# Altium footprint library 第二版PCB.PcbLib: 20 footprints (part 1 of 2)
Each footprint in its own frame and in the unit in brackets; x right, y up, seen from the top. Pads: shape width x height; smd on the part's side, far side on the other; paste and mask are expansions set on the pad; w line width, h text height; cw(c..) or ccw(c..) is an arc to the next point about the centre after c.
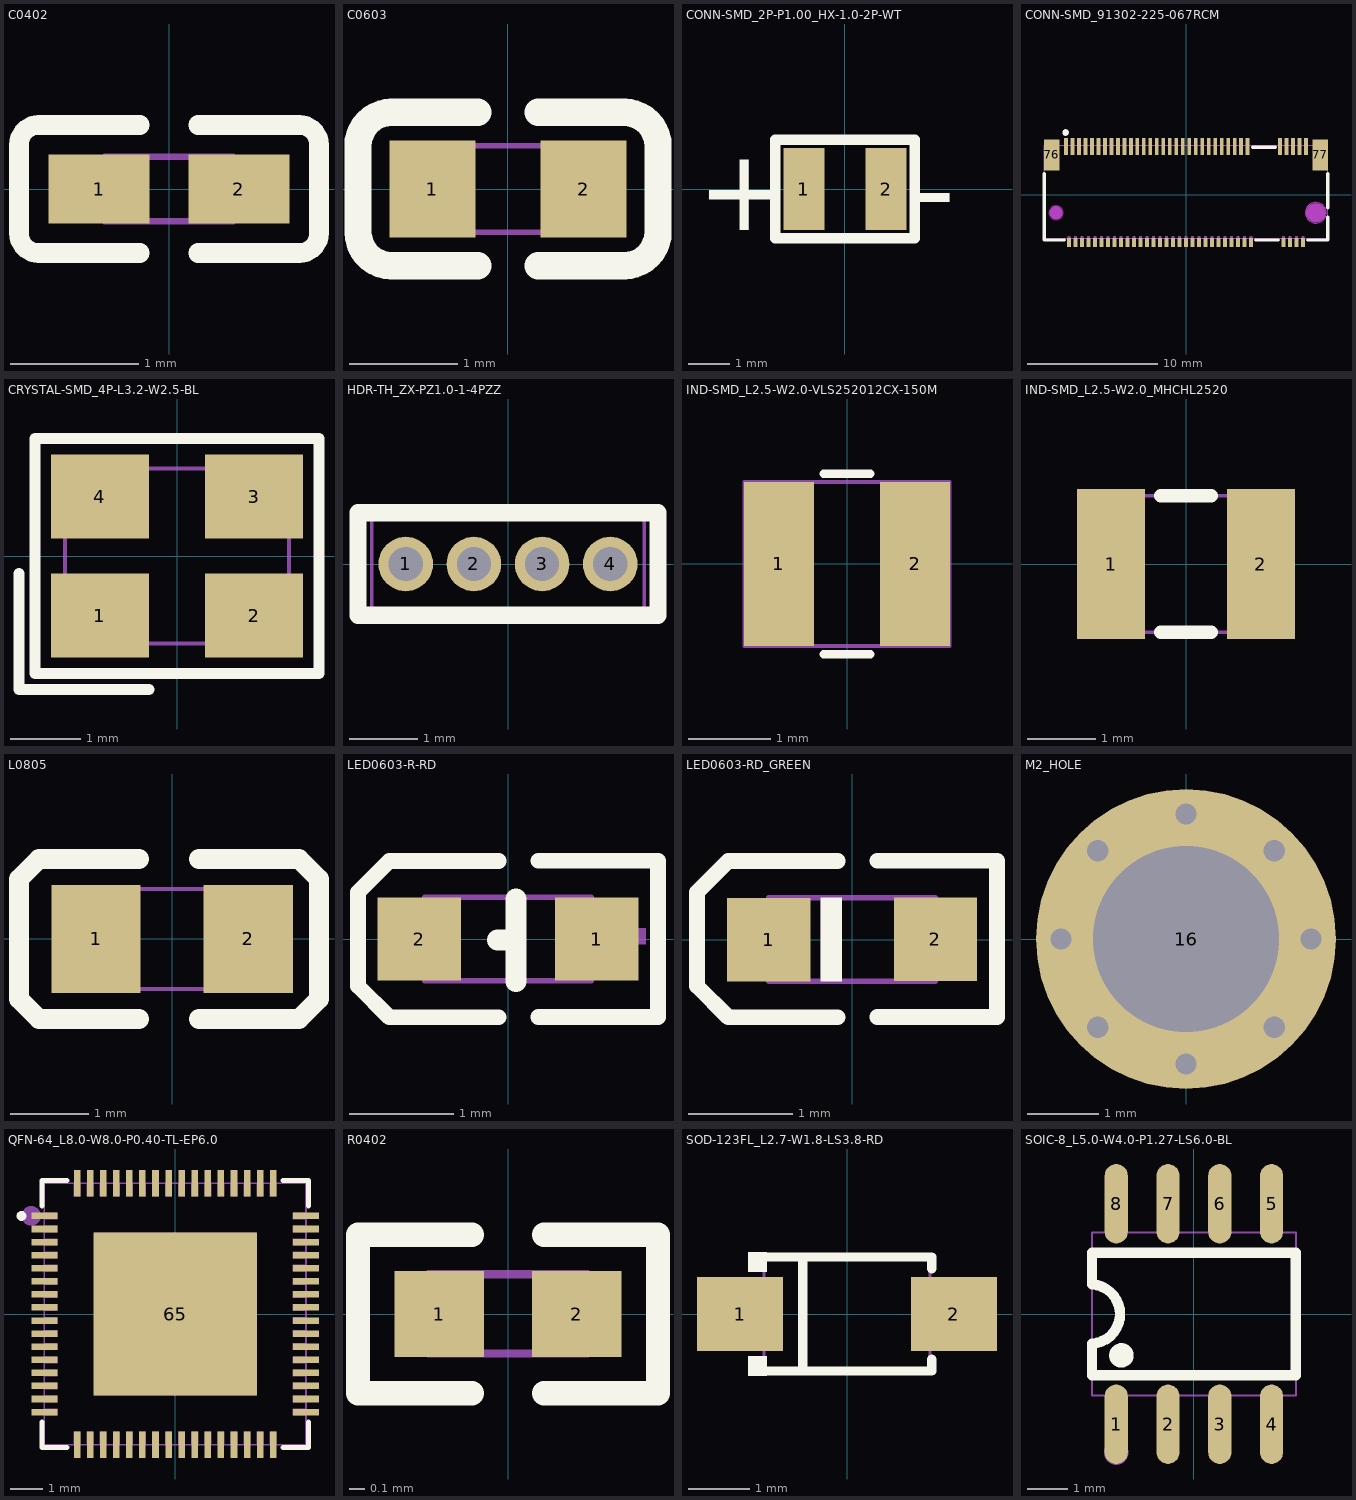
[diagram p0: the footprints below, top view; thin cyan lines are the x and y axes]

## C0402 [mm]
pads (2):
  rect 0.79x0.54 smd paste-100 mask+0.051: 1(-0.545,0) 2(0.545,0)
Top Overlay:
  lines w0.152: -0.226,-0.499 -1.016,-0.499 cw(c-1.016,-0.346) -1.169,-0.346 -1.169,0.346 cw(c-1.016,0.346) -1.016,0.499 -0.226,0.499 ; 0.226,-0.499 1.016,-0.499 ccw(c1.016,-0.346) 1.169,-0.346 1.169,0.346 ccw(c1.016,0.346) 1.016,0.499 0.226,0.499
Top Paste:
  region: 0.78,0.225 0.78,-0.225 0.73,-0.275 0.25,-0.275 0.18,-0.225 0.18,0.225 0.25,0.275 0.73,0.275
  region: -0.18,0.225 -0.18,-0.225 -0.25,-0.275 -0.73,-0.275 -0.78,-0.225 -0.78,0.225 -0.73,0.275 -0.25,0.275
Mechanical 15:
  region: 0.5,-0.25 0.5,0.25 0.25,0.25 0.25,-0.25
  region: -0.5,-0.25 -0.5,0.25 -0.25,0.25 -0.25,-0.25
  lines w0.051: -0.5,-0.25 0.5,-0.25 0.5,0.25 -0.5,0.25 -0.5,-0.25

## C0603 [mm]
pads (2):
  rect 0.8x0.9 smd: 1(-0.7,0) 2(0.7,0)
Top Overlay:
  lines w0.254: -1.08,-0.71 -0.28,-0.71 ; -1.08,0.71 -0.28,0.71 ; -1.08,-0.71 cw(c-1.08,-0.4) -1.39,-0.4 -1.39,0.4 cw(c-1.08,0.4) -1.08,0.71 ; 0.28,-0.71 1.08,-0.71 ccw(c1.08,-0.4) 1.39,-0.4 1.39,0.4 ccw(c1.08,0.4) 1.08,0.71 0.28,0.71
Mechanical 15:
  region: 0.8,-0.4 0.8,0.4 0.5,0.4 0.5,-0.4
  region: -0.8,-0.4 -0.8,0.4 -0.5,0.4 -0.5,-0.4
  lines w0.051: -0.8,-0.4 0.8,-0.4 0.8,0.4 -0.8,0.4 -0.8,-0.4

## CONN-SMD_2P-P1.00_HX-1.0-2P-WT [mm]
pads (2):
  rect 1x2 smd paste+0 mask+0.05: 1(-1,0) 2(1,0)
Top Overlay:
  lines w0.254: -1.7,-1.2 1.7,-1.2 1.7,1.2 -1.7,1.2 -1.7,-1.2
  text "+" at -3.6,-1 h2
  text "-" at 1.7,-0.968 h2

## CONN-SMD_91302-225-067RCM [mm]
pads (69):
  rect 0.3x1.3 smd: 1(-9.25,3.7) 3(-8.75,3.7) 5(-8.25,3.7) 7(-7.75,3.7) 9(-7.25,3.7) 11(-6.75,3.7) 13(-6.25,3.7) 15(-5.75,3.7) 17(-5.25,3.7) 19(-4.75,3.7) 21(-4.25,3.7) 23(-3.75,3.7) 25(-3.25,3.7) 27(-2.75,3.7) 29(-2.25,3.7) 31(-1.75,3.7) 33(-1.25,3.7) 35(-0.75,3.7) 37(-0.25,3.7) 39(0.25,3.7) 41(0.75,3.7) 43(1.25,3.7) 45(1.75,3.7) 47(2.25,3.7) 49(2.75,3.7) 51(3.25,3.7) 53(3.75,3.7) 55(4.25,3.7) 57(4.75,3.7) 67(7.25,3.7) 69(7.75,3.7) 71(8.25,3.7) 73(8.75,3.7) 75(9.25,3.7)
  rect 0.3x0.7 smd: 2(-9,-3.7) 4(-8.5,-3.7) 6(-8,-3.7) 8(-7.5,-3.7) 10(-7,-3.7) 12(-6.5,-3.7) 14(-6,-3.7) 16(-5.5,-3.7) 18(-5,-3.7) 20(-4.5,-3.7) 22(-4,-3.7) 24(-3.5,-3.7) 26(-3,-3.7) 28(-2.5,-3.7) 30(-2,-3.7) 32(-1.5,-3.7) 34(-1,-3.7) 36(-0.5,-3.7) 38(0,-3.7) 40(0.5,-3.7) 42(1,-3.7) 44(1.5,-3.7) 46(2,-3.7) 48(2.5,-3.7) 50(3,-3.7) 52(3.5,-3.7) 54(4,-3.7) 56(4.5,-3.7) 58(5,-3.7) 68(7.5,-3.7) 70(8,-3.7) 72(8.5,-3.7) 74(9,-3.7)
  rect 1.2x2.4 smd: 76(-10.35,3.05) 77(10.35,3.05)
Top Overlay:
  circle w0.254: c-9.271,4.774 r0.127
  lines w0.254: -10.925,1.619 -10.925,-3.5 -9.381,-3.5 ; 5.131,3.65 6.869,3.65 ; 5.381,-3.5 7.119,-3.5 ; 9.381,-3.5 10.925,-3.5 10.925,-1.757 ; 10.925,-1.043 10.925,1.619
Keep-Out Layer:
  board cut-out: -10,-1.95 -10.109,-1.95 -10.312,-1.866 -10.466,-1.712 -10.55,-1.509 -10.55,-1.4 -10.55,-1.291 -10.466,-1.088 -10.312,-0.934 -10.109,-0.85 -10,-0.85 -9.891,-0.85 -9.688,-0.934 -9.534,-1.088 -9.45,-1.291 -9.45,-1.4 -9.45,-1.509 -9.534,-1.712 -9.688,-1.866 -9.891,-1.95
  board cut-out: 9.2,-1.4 9.2,-1.479 9.231,-1.633 9.291,-1.779 9.379,-1.91 9.49,-2.021 9.621,-2.109 9.767,-2.169 9.921,-2.2 10,-2.2 10.079,-2.2 10.233,-2.169 10.379,-2.109 10.51,-2.021 10.621,-1.91 10.709,-1.779 10.769,-1.633 10.8,-1.479 10.8,-1.4 10.8,-1.321 10.769,-1.167 10.709,-1.021 10.621,-0.89 10.51,-0.779 10.379,-0.691 10.233,-0.631 10.079,-0.6 10,-0.6 9.921,-0.6 9.767,-0.631 9.621,-0.691 9.49,-0.779 9.379,-0.89 9.291,-1.021 9.231,-1.167 9.2,-1.321
Keep-Out Layer:
  circle w0.7: c-10,-1.4 r0.2
  circle w0.005: c-10,-1.4 r0.55
  circle w0.8: c10,-1.4 r0.4
Mechanical 1:
  circle w0.005: c10,-1.4 r0.8
Mechanical 6:
  circle w0.5: c-10,-1.4 r0.25
  circle w0.725: c10,-1.4 r0.363
Mechanical 15:
  drawing of 73 lines, arcs and shapes, not listed

## CRYSTAL-SMD_4P-L3.2-W2.5-BL [mm]
pads (4):
  rect 1.4x1.2 smd: 1(-1.1,-0.85) 2(1.1,-0.85) 3(1.1,0.85) 4(-1.1,0.85)
Top Overlay:
  lines w0.152: -2.257,-0.25 -2.257,-1.907 -0.4,-1.907 ; -2.029,-1.678 -2.029,1.679 2.029,1.679 2.029,-1.678 -2.029,-1.678
Mechanical 6:
  circle w0.254: c-1.27,-0.889 r0.127
Mechanical 15:
  region: -1.5,1.15 -0.6,1.15 -0.6,0.35 -1.5,0.35
  region: 0.6,1.15 1.5,1.15 1.5,0.35 0.6,0.35
  region: 0.6,-0.35 1.5,-0.35 1.5,-1.15 0.6,-1.15
  region: -1.5,-0.35 -0.6,-0.35 -0.6,-1.15 -1.5,-1.15
  lines w0.051: -1.6,-1.25 -1.6,1.25 1.6,1.25 1.6,-1.25 -1.6,-1.25

## HDR-TH_ZX-PZ1.0-1-4PZZ [mm]
pads (4):
  round 0.8 hole 0.5: 1(-1.5,0) 2(-0.5,0) 3(0.5,0) 4(1.5,0)
Top Overlay:
  lines w0.254: -2.2,-0.75 2.2,-0.75 2.2,0.75 -2.2,0.75 -2.2,-0.75
Mechanical 15:
  region: -1.65,0.15 -1.35,0.15 -1.35,-0.15 -1.65,-0.15
  region: 1.35,0.15 1.65,0.15 1.65,-0.15 1.35,-0.15
  region: 0.35,0.15 0.65,0.15 0.65,-0.15 0.35,-0.15
  region: -0.65,0.15 -0.35,0.15 -0.35,-0.15 -0.65,-0.15
  lines w0.051: -2,-0.75 2,-0.75 2,0.75 -2,0.75 -2,-0.75

## IND-SMD_L2.5-W2.0-VLS252012CX-150M [mm]
pads (2):
  rect 0.85x2 smd: 1(-0.83,0) 2(0.83,0)
Top Overlay:
  lines w0.102: -0.288,-1.1 0.287,-1.1 ; -0.288,1.1 0.287,1.1
Mechanical 15:
  region: -1.23,1 -0.43,1 -0.43,-1 -1.23,-1
  region: 0.43,1 1.23,1 1.23,-1 0.43,-1
  lines w0.051: -1.25,-1 -1.25,1 1.25,1 1.25,-1 -1.25,-1

## IND-SMD_L2.5-W2.0_MHCHL2520 [mm]
pads (2):
  rect 1x2.2 smd: 1(-1.1,0) 2(1.1,0)
Top Overlay:
  lines w0.2: -0.369,-1 0.369,-1 ; -0.369,1 0.369,1
Mechanical 15:
  region: -0.65,1 -0.65,-1 -1.25,-1 -1.25,1
  region: 1.25,1 1.25,-1 0.65,-1 0.65,1
  lines w0.051: -1.25,-1 -1.25,1 1.25,1 1.25,-1 -1.25,-1

## L0805 [mm]
pads (2):
  rect 1.133x1.377 smd paste-100 mask+0.051: 1(-0.966,0) 2(0.966,0)
Top Overlay:
  lines w0.254: -0.421,-1.016 -1.691,-1.016 -1.945,-0.762 -1.945,-0.635 -1.945,0.762 -1.691,1.016 -1.564,1.016 -0.421,1.016 ; 0.341,-1.016 1.484,-1.016 1.611,-1.016 1.865,-0.762 1.865,0.635 1.865,0.762 1.611,1.016 0.341,1.016
Top Paste:
  region: 0.36,-0.22 0.36,0.22 0.745,0.689 1.433,0.689 1.533,0.589 1.533,-0.588 1.433,-0.688 0.745,-0.688
  region: -0.36,-0.22 -0.36,0.22 -0.745,0.689 -1.433,0.689 -1.533,0.589 -1.533,-0.588 -1.433,-0.688 -0.745,-0.688
Mechanical 15:
  region: -1,-0.637 -1,0.638 -0.6,0.638 -0.6,-0.637
  region: 1,-0.637 1,0.638 0.6,0.638 0.6,-0.637
  lines w0.051: -1,-0.637 1,-0.637 1,0.638 -1,0.638 -1,-0.637

## LED0603-R-RD [mm]
pads (2):
  rect 0.8x0.8 smd: 1(0.851,0) 2(-0.851,0)
Top Overlay:
  lines w0.15: -0.09,-0.751 -1.14,-0.751 -1.44,-0.451 -1.44,-0.351 -1.44,0.349 -1.44,0.449 -1.14,0.749 -0.09,0.749 ; 0.29,-0.749 1.44,-0.749 ; 0.29,0.751 1.44,0.751 ; 1.44,-0.729 1.44,0.751
  lines w0.203: -0.099,-0.008 0.076,-0.008 ; 0.076,-0.406 0.076,0.381
Mechanical 6:
  region: -1.193,0.05 -0.533,0.05 -0.533,-0.103 -1.193,-0.103
  region: 0.936,-0.275 0.936,0.385 1.088,0.385 1.088,-0.275
  region: 0.66,0.102 1.321,0.102 1.321,-0.051 0.66,-0.051
Mechanical 15:
  region: -0.8,-0.4 -0.8,0.4 -0.5,0.4 -0.5,-0.4
  region: 0.8,0.4 0.8,-0.4 0.5,-0.4 0.5,0.4
  lines w0.051: -0.8,-0.4 -0.8,0.4 0.8,0.4 0.8,-0.4 -0.8,-0.4

## LED0603-RD_GREEN [mm]
pads (2):
  rect 0.8x0.8 smd: 1(-0.799,-0.003) 2(0.799,0.003)
Top Overlay:
  region: -0.3,0.4 -0.3,-0.4 -0.1,-0.4 -0.1,0.4
  lines w0.15: -0.14,-0.746 -1.19,-0.746 -1.49,-0.446 -1.49,-0.346 -1.49,0.354 -1.49,0.454 -1.19,0.754 -0.14,0.754 ; 0.24,-0.744 1.39,-0.744 ; 0.24,0.757 1.39,0.757 1.39,-0.723
Mechanical 6:
  region: -0.3,0.4 -0.3,-0.4 -0.1,-0.4 -0.1,0.4
  region: -1.07,0.062 -0.53,0.062 -0.53,-0.068 -1.07,-0.068
  region: 0.735,-0.267 0.735,0.273 0.865,0.273 0.865,-0.267
  region: 0.529,0.068 1.069,0.068 1.069,-0.062 0.529,-0.062
Mechanical 15:
  region: -0.8,-0.403 -0.8,0.397 -0.5,0.397 -0.5,-0.403
  region: 0.5,-0.396 0.5,0.404 0.8,0.404 0.8,-0.396
  lines w0.051: -0.8,-0.4 0.8,-0.4 0.8,0.4 -0.8,0.4 -0.8,-0.4

## M2_HOLE [mm]
pads (1):
  round 4.2 hole 2.6: 16(0,0)
via 1.75,0 diameter 0.6 hole 0.3
via 1.237,1.237 diameter 0.6 hole 0.3
via 1.237,-1.237 diameter 0.6 hole 0.3
via 0,-1.75 diameter 0.6 hole 0.3
via -1.237,-1.237 diameter 0.6 hole 0.3
via -1.75,0 diameter 0.6 hole 0.3
via -1.237,1.237 diameter 0.6 hole 0.3
via 0,1.75 diameter 0.6 hole 0.3

## QFN-64_L8.0-W8.0-P0.40-TL-EP6.0 [mm]
pads (65):
  rect 0.8x0.2 smd paste-100 mask+0.051: 1(-4,3) 2(-4,2.6) 3(-4,2.2) 4(-4,1.8) 5(-4,1.4) 6(-4,1) 7(-4,0.6) 8(-4,0.2) 9(-4,-0.2) 10(-4,-0.6) 11(-4,-1) 12(-4,-1.4) 13(-4,-1.8) 14(-4,-2.2) 15(-4,-2.6) 16(-4,-3) 33(4,-3) 34(4,-2.6) 35(4,-2.2) 36(4,-1.8) 37(4,-1.4) 38(4,-1) 39(4,-0.6) 40(4,-0.2) 41(4,0.2) 42(4,0.6) 43(4,1) 44(4,1.4) 45(4,1.8) 46(4,2.2) 47(4,2.6) 48(4,3)
  rect 0.2x0.8 smd paste-100 mask+0.051: 17(-3,-4) 18(-2.6,-4) 19(-2.2,-4) 20(-1.8,-4) 21(-1.4,-4) 22(-1,-4) 23(-0.6,-4) 24(-0.2,-4) 25(0.2,-4) 26(0.6,-4) 27(1,-4) 28(1.4,-4) 29(1.8,-4) 30(2.2,-4) 31(2.6,-4) 32(3,-4) 49(3,4) 50(2.6,4) 51(2.2,4) 52(1.8,4) 53(1.4,4) 54(1,4) 55(0.6,4) 56(0.2,4) 57(-0.2,4) 58(-0.6,4) 59(-1,4) 60(-1.4,4) 61(-1.8,4) 62(-2.2,4) 63(-2.6,4) 64(-3,4)
  rect 5x5 smd paste-100 mask+0.051: 65(0,0)
Top Overlay:
  circle w0.15: c-4.7,3 r0.075
  lines w0.152: -4.076,-3.303 -4.076,-4.076 -3.303,-4.076 ; -4.076,3.303 -4.076,4.076 -3.303,4.076 ; 3.303,-4.076 4.076,-4.076 4.076,-3.303 ; 3.303,4.076 4.076,4.076 4.076,3.303
Top Paste:
  drawing of 65 lines, arcs and shapes, not listed
Mechanical 6:
  circle w0.3: c-4.4,3 r0.15
Mechanical 15:
  drawing of 69 lines, arcs and shapes, not listed

## R0402 [mm]
pads (2):
  rect 0.566x0.54 smd paste-100 mask+0.051: 1(-0.433,0) 2(0.433,0)
Top Overlay:
  lines w0.152: -0.226,-0.499 -0.944,-0.499 -0.944,0.499 -0.226,0.499 ; 0.226,-0.499 0.944,-0.499 0.944,0.499 0.226,0.499
Top Paste:
  region: -0.135,-0.23 -0.135,0.23 -0.175,0.27 -0.676,0.27 -0.716,0.23 -0.716,-0.23 -0.676,-0.27 -0.175,-0.27
  region: 0.135,-0.23 0.135,0.23 0.175,0.27 0.676,0.27 0.716,0.23 0.716,-0.23 0.676,-0.27 0.175,-0.27
Mechanical 15:
  region: -0.249,0.25 -0.249,-0.25 -0.499,-0.25 -0.499,0.25
  region: 0.251,-0.25 0.251,0.25 0.501,0.25 0.501,-0.25
  lines w0.051: -0.5,-0.25 0.5,-0.25 0.5,0.25 -0.5,0.25 -0.5,-0.25

## SOD-123FL_L2.7-W1.8-LS3.8-RD [mm]
pads (2):
  rect 1.4x1.2 smd: 1(-1.735,0) 2(1.735,0)
Top Overlay:
  region: -1.3,1.002 -1.3,0.682 -1.605,0.682 -1.605,1.002
  region: -1.3,-1.002 -1.3,-0.682 -1.605,-0.682 -1.605,-1.002
  lines w0.152: -1.376,-0.926 1.376,-0.926 1.376,-0.733 ; -1.376,0.926 1.376,0.926 1.376,0.733 ; -0.717,-0.876 -0.717,0.876
Mechanical 6:
  region: -2.032,0.127 -2.032,-0.065 -1.264,-0.065 -1.264,0.127
  region: 2.035,0.096 2.035,-0.096 1.267,-0.096 1.267,0.096
  region: 1.747,-0.384 1.555,-0.384 1.555,0.384 1.747,0.384
Mechanical 15:
  region: 1.95,-0.475 1.15,-0.475 1.15,0.475 1.95,0.475
  region: -1.95,0.475 -1.15,0.475 -1.15,-0.475 -1.95,-0.475
  lines w0.051: -1.35,-0.9 -1.35,0.9 1.35,0.9 1.35,-0.9 -1.35,-0.9

## SOIC-8_L5.0-W4.0-P1.27-LS6.0-BL [mil]
pads (8):
  oval 22.38x76.78 smd: 1(-75,-106.5) 2(-25,-106.5) 3(25,-106.5) 4(75,-106.5) 5(75,106.5) 6(25,106.5) 7(-25,106.5) 8(-75,106.5)
Top Overlay:
  circle w11.81: c-70,-40 r5.91
  lines w10: -98.43,-28.61 ccw(c-99.99,0) -98.23,28.59 ; -98.42,-28.61 -98.42,-59.05 98.42,-59.05 98.42,59.05 -98.42,59.05 -98.42,28.59
Mechanical 6:
  circle w11.81: c-75,-133.86 r5.91
Mechanical 15:
  region: 66.93,76.38 66.93,85.63 83.07,85.63 83.07,76.38
  region: 66.93,85.24 66.93,118.11 83.07,118.11 83.07,85.24
  region: 16.93,76.38 16.93,85.63 33.07,85.63 33.07,76.38
  region: 16.93,85.24 16.93,118.11 33.07,118.11 33.07,85.24
  region: -33.07,76.38 -33.07,85.63 -16.93,85.63 -16.93,76.38
  region: -33.07,85.24 -33.07,118.11 -16.93,118.11 -16.93,85.24
  region: -83.07,76.38 -83.07,85.63 -66.93,85.63 -66.93,76.38
  region: -83.07,85.24 -83.07,118.11 -66.93,118.11 -66.93,85.24
  region: 66.93,-85.63 66.93,-76.38 83.07,-76.38 83.07,-85.63
  region: 66.93,-118.11 66.93,-85.24 83.07,-85.24 83.07,-118.11
  region: 16.93,-85.63 16.93,-76.38 33.07,-76.38 33.07,-85.63
  region: 16.93,-118.11 16.93,-85.24 33.07,-85.24 33.07,-118.11
  region: -33.07,-85.63 -33.07,-76.38 -16.93,-76.38 -16.93,-85.63
  region: -33.07,-118.11 -33.07,-85.24 -16.93,-85.24 -16.93,-118.11
  region: -83.07,-85.63 -83.07,-76.38 -66.93,-76.38 -66.93,-85.63
  region: -83.07,-118.11 -83.07,-85.24 -66.93,-85.24 -66.93,-118.11
  lines w2: -98.42,-78.74 -98.42,78.74 98.42,78.74 98.42,-78.74 -98.42,-78.74